# EAGLE library part TX_6.0+6.0_10VA_ENCAPSULATED (library EW_00_Ken)
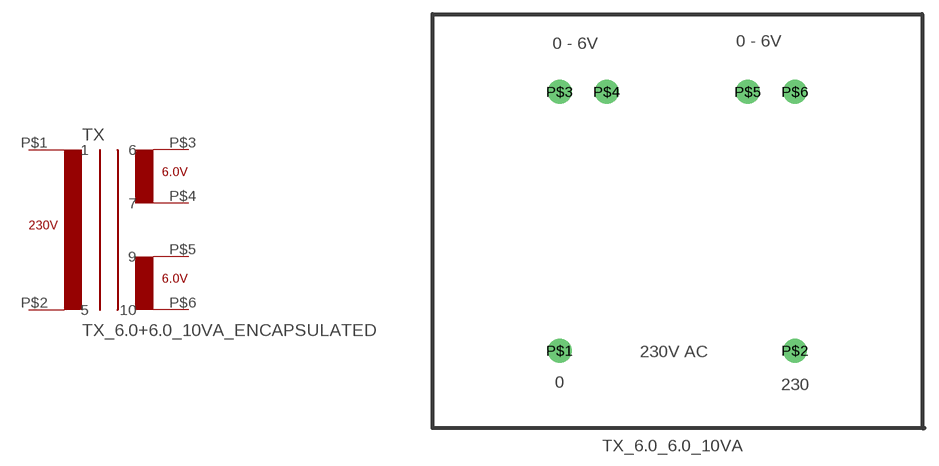
[diagram p14: symbol with the pads of TX_6.0+6.0_10VA_ENCAPSULATED; footprint TX_6.0+6.0_10VA_ENCAPSULATED]

Designator prefix TX

## TX_6.0+6.0_10VA_ENCAPSULATED  [TX_6.0+6.0_10VA_ENCAPSULATED]
P$1  1
P$2  5
P$3  6
P$4  7
P$5  9
P$6  10

## Footprint TX_6.0+6.0_10VA_ENCAPSULATED (pad centres in mm)
drill 0.5 pad 2.54: P$1 -12.5,-13.75; P$2 12.5,-13.75; P$3 -12.5,13.75; P$4 -7.5,13.75; P$5 7.5,13.75; P$6 12.5,13.75